# EAGLE library part DRV8874 (library drive_ctrl)
DRV8874 Motor Driver from Texas Instruments 6A Peak current 4.5-37V
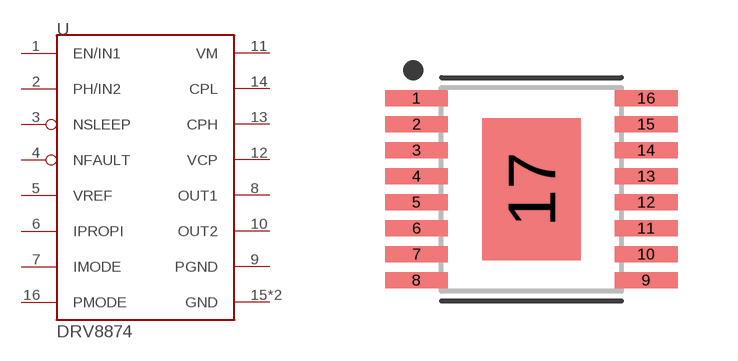
[diagram p0: symbol with the pads of SOP65P640X120-17T246X355N; footprint SOP65P640X120-17T246X355N]

Designator prefix U

## DRV8874HTSSOP-16 (DKPN: 296-DRV8874PWPRCT-ND)  [SOP65P640X120-17T246X355N]
1  EN/IN1  in
2  PH/IN2  in
3  NSLEEP  in
4  NFAULT  out
5  VREF  pas
6  IPROPI  out
7  IMODE  in
8  OUT1  out
9  PGND  pwr
10  OUT2  out
11  VM  pwr
12  VCP  pas
13  CPH  pas
14  CPL  pas
15  GND  pwr
16  PMODE  in
17  GND  pwr

## Footprint SOP65P640X120-17T246X355N (pad centres in mm)
16-SOP, 0.65 mm pitch, 6.40 mm span, 5.00 X 4.40 X 1.20 mm body, 3.55 X 2.46 mm thermal pad 16-pin SOP package with 0.65 mm pitch, 6.40 mm span with body size 5.00 X 4.40 X 1.20 mm and thermal pad size 3.55 X 2.46 mm
smd 1.572 x 0.407: 1 -2.872,2.275; 2 -2.872,1.625; 3 -2.872,0.975; 4 -2.872,0.325; 5 -2.872,-0.325; 6 -2.872,-0.975; 7 -2.872,-1.625; 8 -2.872,-2.275; 9 2.872,-2.275; 10 2.872,-1.625; 11 2.872,-0.975; 12 2.872,-0.325; 13 2.872,0.325; 14 2.872,0.975; 15 2.872,1.625; 16 2.872,2.275
smd 2.46 x 3.55: 17 0,0